# EAGLE library part LM4990LD/MH/ITLX (library Audio-Power-amlifier V.2.0)
The LM4990 is an audio power amplifier primarily designed for demanding applications in mobile phones and other portable communication device applications. It is capable of delivering 1.25 watts of continuous average power to an 8Ω BTL load and 2 watts of continuous average power (LD and MH only) to a 4Ω BTL load with less than 1% distortion (THD+N+N) from a 5VDC power supply.
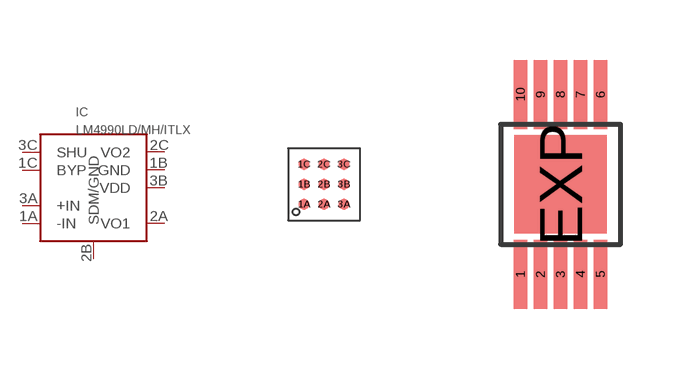
[diagram p197: symbol with the pads of BGA_MIKRO-SMD-9BUMP; footprints BGA_MIKRO-SMD-9BUMP, TSSOP10]

Designator prefix IC

## LM4990LD/MH/ITLXLM4990ITLX  [BGA_MIKRO-SMD-9BUMP]
1A  -IN  in
1B  GND  pwr
1C  BYP
2A  VO1  out
2B  SDM/GND
2C  VO2  out
3A  +IN  in
3B  VDD  pwr
3C  SHU

## LM4990LD/MH/ITLXLM4990MH  [TSSOP10]
1  SHU
2  BYP
3  SDM/GND
4  +IN  in
5  -IN  in
6  VO1  out
8  VDD  pwr
9  GND  pwr
10  VO2  out

## LM4990LD/MH/ITLXLM4990LD  [LLP10-LDA10B]
Pads as for TSSOP10

## Footprint BGA_MIKRO-SMD-9BUMP (pad centres in mm)
BGA-Package Number TLA09 www.national.com
smd 0.277 x 0.277: 1A -0.5,-0.5; 1B -0.5,0; 1C -0.5,0.5; 2A 0,-0.5; 2B 0,0; 2C 0,0.5; 3A 0.5,-0.5; 3B 0.5,0; 3C 0.5,0.5

## Footprint TSSOP10 (pad centres in mm)
TSSOP10 Package Number MXF10A. www.national.com
smd 0.33 x 1.73: 1 -1,-2.25; 2 -0.5,-2.25; 3 0,-2.25; 4 0.5,-2.25; 5 1,-2.25; 6 1,2.25; 7 0.5,2.25; 8 0,2.25; 9 -0.5,2.25; 10 -1,2.25
smd 2.32 x 2.46: EXP 0,0

## Footprint LLP10-LDA10B (pad centres in mm)
LLP10 -Package Number LDA10B 3x4 body. www.national.com
smd 0.26 x 0.51: 1 1,1.65; 2 0.5,1.65; 3 0,1.65; 4 -0.5,1.65; 5 -1,1.65; 6 -1,-1.65; 7 -0.5,-1.65; 8 0,-1.65; 9 0.5,-1.65; 10 1,-1.65
smd 2 x 2.2: EXP 0,0